# Altium footprint library ESDALC6V1-1M2.PcbLib: 3 footprints
Each footprint in its own frame and in the unit in brackets; x right, y up, seen from the top. Pads: shape width x height; smd on the part's side, far side on the other; paste and mask are expansions set on the pad; w line width, h text height; cw(c..) or ccw(c..) is an arc to the next point about the centre after c.
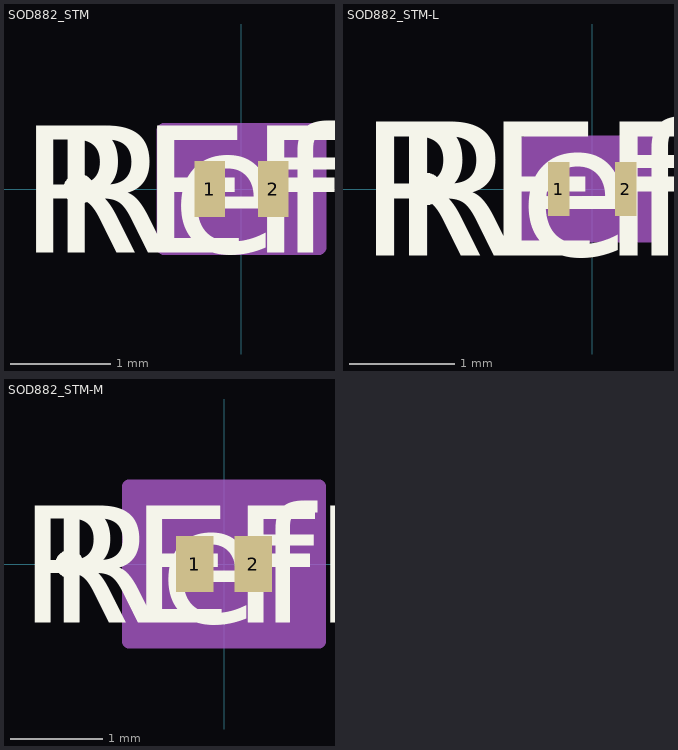
[diagram p0: the footprints below, top view; thin cyan lines are the x and y axes]

## SOD882_STM [mil]
pads (2):
  rect 12x22 smd paste+0 mask-1: 1(-12.5,0) 2(12.5,0)
Top Overlay:
  circle w6: c-64,0 r3
  text "REFDES" at -87.5,-25 h50
  text "RefDes" at -75,-25 h50
Mechanical 13:
  circle w0: c0,0 r3
  lines w1: -20.5,-13 20.5,-13 20.5,13 -20.5,13 -20.5,-13
  text "RefDes2" at -87.5,-25 h50
Mechanical 15:
  region: -30.5,-21 -30.5,21 -30.5,23 30.5,23 30.5,21 30.5,-21 30.5,-23 -30.5,-23
  lines w6: -30.5,-21 -30.5,21 ; -30.5,-21 -30.5,-21 ; -30.5,-21 -30.5,-23 30.5,-23 30.5,-21 ; -30.5,21 -30.5,21 ; -30.5,21 -30.5,23 30.5,23 30.5,21 ; 30.5,-21 30.5,21 ; 30.5,-21 30.5,-21 ; 30.5,21 30.5,21
3D body "SOD882_STM.step": height 20.12, standoff 0, extent -20.51,-12.99 20.51,12.99

## SOD882_STM-L [mil]
pads (2):
  rect 8.06x20.03 smd paste+0 mask+0: 1(-12.5,0) 2(12.5,0)
Top Overlay:
  circle w6: c-62.03,0 r3
  text "REFDES" at -87.5,-25 h50
  text "RefDes" at -75,-25 h50
Mechanical 13:
  circle w0: c0,0 r3
  lines w1: -20.5,-13 20.5,-13 20.5,13 -20.5,13 -20.5,-13
  text "RefDes2" at -87.5,-25 h50
Mechanical 15:
  region: -24.5,-14.02 -24.5,14.02 -24.5,17 24.5,17 24.5,14.02 24.5,-14.02 24.5,-17 -24.5,-17
  lines w6: -24.5,-14.02 -24.5,14.02 ; -24.5,-14.02 -24.5,-14.02 ; -24.5,-14.02 -24.5,-17 24.5,-17 24.5,-14.02 ; -24.5,14.02 -24.5,14.02 ; -24.5,14.02 -24.5,17 24.5,17 24.5,14.02 ; 24.5,-14.02 24.5,14.02 ; 24.5,-14.02 24.5,-14.02 ; 24.5,14.02 24.5,14.02
3D body "SOD882_STM.step": height 20.12, standoff 0, extent -20.51,-12.99 20.51,12.99

## SOD882_STM-M [mil]
pads (2):
  rect 15.94x23.97 smd paste+0 mask+0: 1(-12.5,0) 2(12.5,0)
Top Overlay:
  circle w6: c-65.97,0 r3
  text "REFDES" at -87.5,-25 h50
  text "RefDes" at -75,-25 h50
Mechanical 13:
  circle w0: c0,0 r3
  lines w1: -20.5,-13 20.5,-13 20.5,13 -20.5,13 -20.5,-13
  text "RefDes2" at -87.5,-25 h50
Mechanical 15:
  region: -40.5,-31.98 -40.5,31.98 -40.5,33 40.5,33 40.5,31.98 40.5,-31.98 40.5,-33 -40.5,-33
  lines w6: -40.5,-31.98 -40.5,31.98 ; -40.5,-31.98 -40.5,-31.98 ; -40.5,-31.98 -40.5,-33 40.5,-33 40.5,-31.98 ; -40.5,31.98 -40.5,31.98 ; -40.5,31.98 -40.5,33 40.5,33 40.5,31.98 ; 40.5,-31.98 40.5,31.98 ; 40.5,-31.98 40.5,-31.98 ; 40.5,31.98 40.5,31.98
3D body "SOD882_STM.step": height 20.12, standoff 0, extent -20.51,-12.99 20.51,12.99